# Altium schematic symbol library CONNECTOR_BOARD2BOARD.SchLib: 2 symbols
Pins are listed as number, name and electrical type; pins without a type are passive.

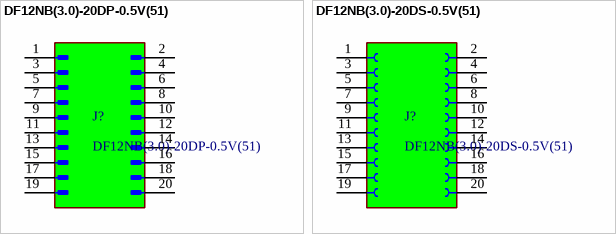
[diagram p0: symbols DF12NB(3.0)-20DP-0.5V(51) to DF12NB(3.0)-20DS-0.5V(51)]

## DF12NB(3.0)-20DP-0.5V(51)
designator J?
MPN: DF12NB(3.0)-20DP-0.5V(51)
footprint HRS_DF12NB(3.0)-20DP-0.5V(51)
pins: 1, 2, 3, 4, 5, 6, 7, 8, 9, 10, 11, 12, 13, 14, 15, 16, 17, 18, 19, 20

## DF12NB(3.0)-20DS-0.5V(51)
designator J?
MPN: DF12NB(3.0)-20DS-0.5V(51)
footprint HRS_DF12NB(3.0)-20DS-0.5V(51)
pins: 1, 2, 3, 4, 5, 6, 7, 8, 9, 10, 11, 12, 13, 14, 15, 16, 17, 18, 19, 20